# EAGLE library part EPCS4SI8N (library receiver_2v0)
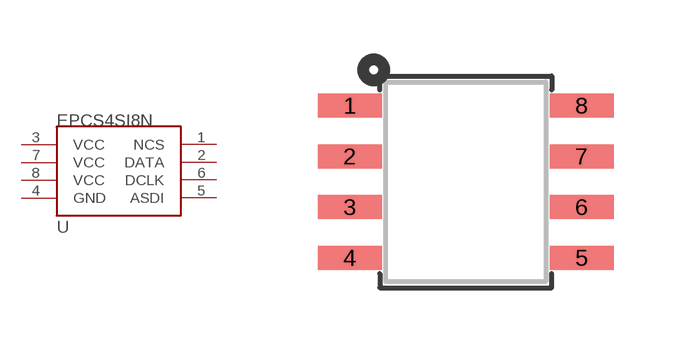
[diagram p9: symbol with the pads of SOIC-8; footprint SOIC-8]

Designator prefix U

## EPCS4SI8N  [SOIC-8]
1  NCS
2  DATA
3  VCC
4  GND
5  ASDI
6  DCLK
7  VCC
8  VCC

## Footprint SOIC-8 (pad centres in mm)
smd 1.6 x 0.6: 1 -2.9,1.91; 2 -2.9,0.64; 3 -2.9,-0.63; 4 -2.9,-1.9; 5 2.9,-1.9; 6 2.9,-0.63; 7 2.9,0.64; 8 2.9,1.91